# EAGLE library part 27256 (library memories)
EPROM 32K x 8 bits
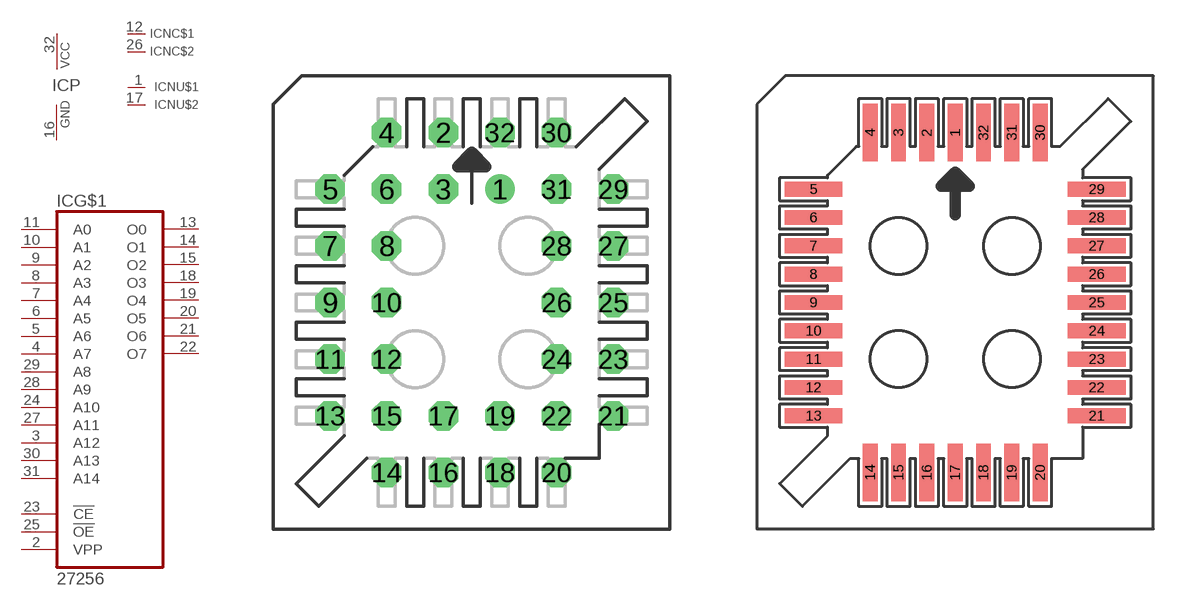
[diagram p9: symbol with the pads of PLCC-S32; footprints PLCC-S32, PLCCSM32]

Designator prefix IC; gates G$1=27256 P=PWRN NC$1=NC NC$2=NC NU$1=NU NU$2=NU

## 27256S  [PLCC-S32]
1  NU$1:IC-NU  nc
2  G$1:VPP  in
3  G$1:A12  in
4  G$1:A7  in
5  G$1:A6  in
6  G$1:A5  in
7  G$1:A4  in
8  G$1:A3  in
9  G$1:A2  in
10  G$1:A1  in
11  G$1:A0  in
12  NC$1:NC  nc
13  G$1:O0  hiz
14  G$1:O1  hiz
15  G$1:O2  hiz
16  P:GND  pwr
17  NU$2:IC-NU  nc
18  G$1:O3  hiz
19  G$1:O4  hiz
20  G$1:O5  hiz
21  G$1:O6  hiz
22  G$1:O7  hiz
23  G$1:!CE  in
24  G$1:A10  in
25  G$1:!OE  in
26  NC$2:NC  nc
27  G$1:A11  in
28  G$1:A9  in
29  G$1:A8  in
30  G$1:A13  in
31  G$1:A14  in
32  P:VCC  pwr

## 27256SMT  [PLCCSM32]
Pads as for PLCC-S32

## Footprint PLCC-S32 (pad centres in mm)
Plastic Leaded Chip Carrier Socket
drill 0.813: 1 1.27,5.08
drill 0.813 octagon: 2 -1.27,7.62; 3 -1.27,5.08; 4 -3.81,7.62; 5 -6.35,5.08; 6 -3.81,5.08; 7 -6.35,2.54; 8 -3.81,2.54; 9 -6.35,0; 10 -3.81,0; 11 -6.35,-2.54; 12 -3.81,-2.54; 13 -6.35,-5.08; 14 -3.81,-7.62; 15 -3.81,-5.08; 16 -1.27,-7.62; 17 -1.27,-5.08; 18 1.27,-7.62; 19 1.27,-5.08; 20 3.81,-7.62; 21 6.35,-5.08; 22 3.81,-5.08; 23 6.35,-2.54; 24 3.81,-2.54; 25 6.35,0; 26 3.81,0; 27 6.35,2.54; 28 3.81,2.54; 29 6.35,5.08; 30 3.81,7.62; 31 3.81,5.08; 32 1.27,7.62

## Footprint PLCCSM32 (pad centres in mm)
smd 0.66 x 2.591: 1 0,7.62; 2 -1.27,7.62; 3 -2.54,7.62; 4 -3.81,7.62; 14 -3.81,-7.62; 15 -2.54,-7.62; 16 -1.27,-7.62; 17 0,-7.62; 18 1.27,-7.62; 19 2.54,-7.62; 20 3.81,-7.62; 30 3.81,7.62; 31 2.54,7.62; 32 1.27,7.62
smd 2.591 x 0.66: 5 -6.35,5.08; 6 -6.35,3.81; 7 -6.35,2.54; 8 -6.35,1.27; 9 -6.35,0; 10 -6.35,-1.27; 11 -6.35,-2.54; 12 -6.35,-3.81; 13 -6.35,-5.08; 21 6.35,-5.08; 22 6.35,-3.81; 23 6.35,-2.54; 24 6.35,-1.27; 25 6.35,0; 26 6.35,1.27; 27 6.35,2.54; 28 6.35,3.81; 29 6.35,5.08